# Altium integrated library EEUFR1C102B.IntLib: 1 symbol
Pins are listed as number, name and electrical type; pins without a type are passive.

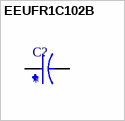
[diagram p0: symbol EEUFR1C102B]

## EEUFR1C102B
designator C?
CAP ALUM 1000UF 20% 16V RADIAL; MF: Panasonic; MP: EEU-FR1C102B; Value: *; Price: None; Package: RADIAL-2 Panasonic; SnapEDA_Link: https://www.snapeda.com/parts/EEU-FR1C102B/Panasonic/view-part/2318035/?ref=snap; Check_prices: https://www.snapeda.com/parts/EEU-FR1C102B/Panasonic/view-part/2318035/?ref=eda; Availability: In Stock; Purchase-URL: https://pricing.snapeda.com/search/part/EEU-FR1C102B/?ref=eda
footprint CAPPRD500W60D1000H1600
pins: N, P